# Altium schematic symbol library Schlib1.SchLib: 5 symbols
Pins are listed as number, name and electrical type; pins without a type are passive.

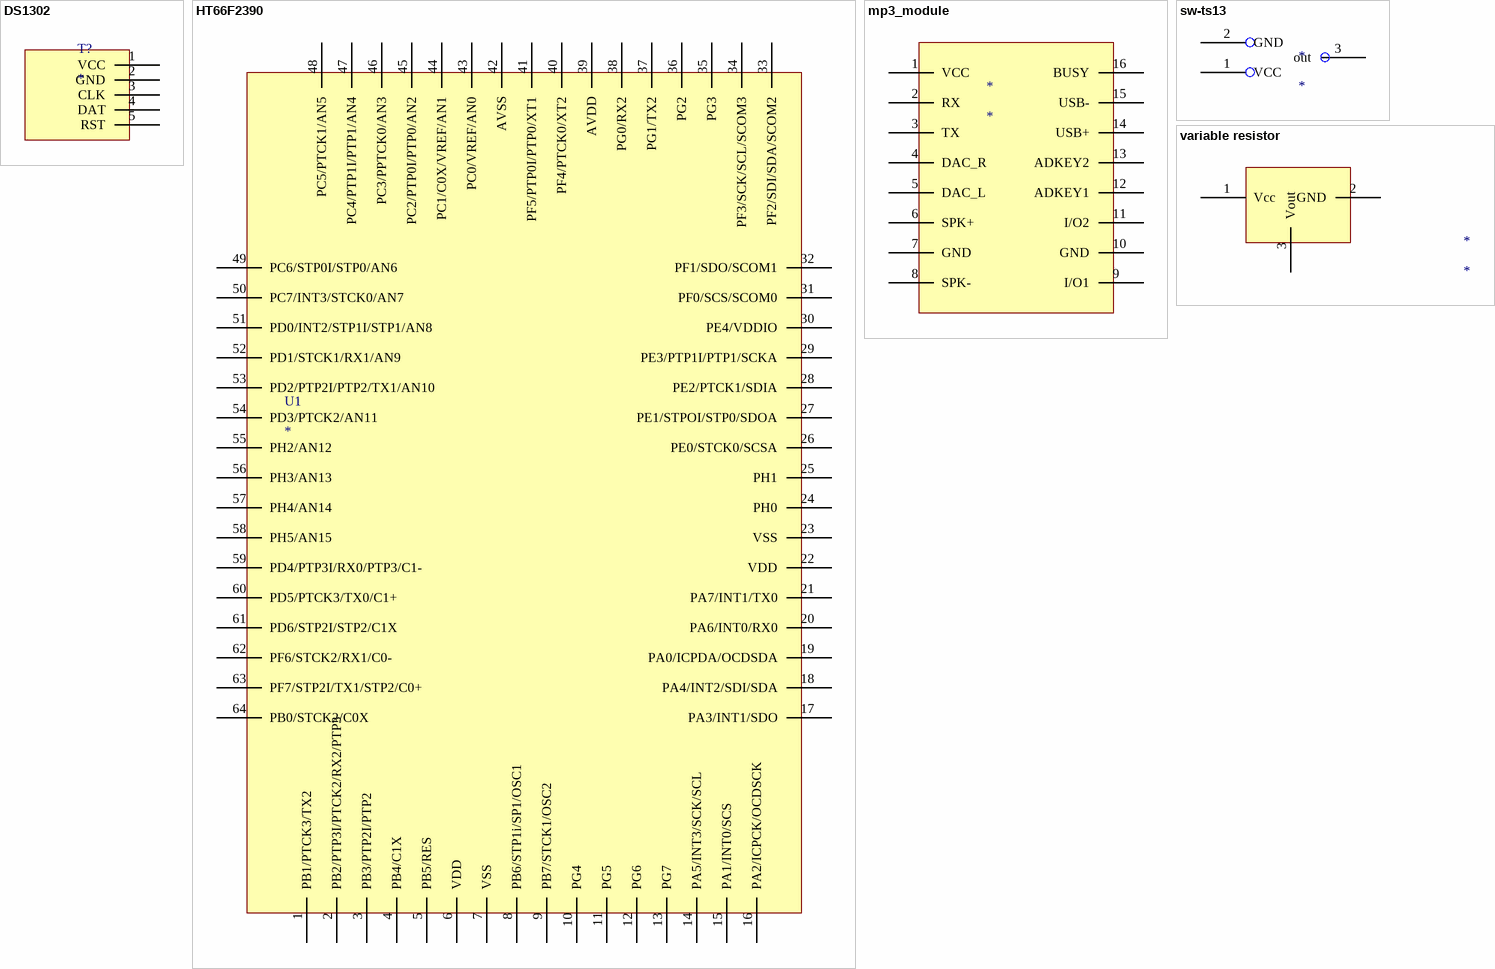
[diagram p0: symbols DS1302 to variable resistor]

## DS1302
designator T?
pins: 1 VCC, 2 GND, 3 CLK, 4 DAT, 5 RST

## HT66F2390
designator U1
footprint LFPQ-64
pins: 1 PB1/PTCK3/TX2, 2 PB2/PTP3I/PTCK2/RX2/PTP3, 3 PB3/PTP2I/PTP2, 4 PB4/C1X, 5 PB5/RES, 6 VDD, 7 VSS, 8 PB6/STP1i/SP1/OSC1, 9 PB7/STCK1/OSC2, 10 PG4, 11 PG5, 12 PG6, 13 PG7, 14 PA5/INT3/SCK/SCL, 15 PA1/INT0/SCS, 16 PA2/ICPCK/OCDSCK, 17 PA3/INT1/SDO, 18 PA4/INT2/SDI/SDA, 19 PA0/ICPDA/OCDSDA, 20 PA6/INT0/RX0, 21 PA7/INT1/TX0, 22 VDD, 23 VSS, 24 PH0, 25 PH1, 26 PE0/STCK0/SCSA, 27 PE1/STPOI/STP0/SDOA, 28 PE2/PTCK1/SDIA, 29 PE3/PTP1I/PTP1/SCKA, 30 PE4/VDDIO, 31 PF0/SCS/SCOM0, 32 PF1/SDO/SCOM1, 33 PF2/SDI/SDA/SCOM2, 34 PF3/SCK/SCL/SCOM3, 35 PG3, 36 PG2, 37 PG1/TX2, 38 PG0/RX2, 39 AVDD, 40 PF4/PTCK0/XT2, 41 PF5/PTP0I/PTP0/XT1, 42 AVSS, 43 PC0/VREF/AN0, 44 PC1/C0X/VREF/AN1, 45 PC2/PTP0I/PTP0/AN2, 46 PC3/PPTCK0/AN3, 47 PC4/PTP1I/PTP1/AN4, 48 PC5/PTCK1/AN5, 49 PC6/STP0I/STP0/AN6, 50 PC7/INT3/STCK0/AN7, 51 PD0/INT2/STP1I/STP1/AN8, 52 PD1/STCK1/RX1/AN9, 53 PD2/PTP2I/PTP2/TX1/AN10, 54 PD3/PTCK2/AN11, 55 PH2/AN12, 56 PH3/AN13, 57 PH4/AN14, 58 PH5/AN15, 59 PD4/PTP3I/RX0/PTP3/C1-, 60 PD5/PTCK3/TX0/C1+, 61 PD6/STP2I/STP2/C1X, 62 PF6/STCK2/RX1/C0-, 63 PF7/STP2I/TX1/STP2/C0+, 64 PB0/STCK2/C0X

## mp3_module
designator *
pins: 1 VCC, 2 RX, 3 TX, 4 DAC_R, 5 DAC_L, 6 SPK+, 7 GND, 8 SPK-, 9 I/O1, 10 GND, 11 I/O2, 12 ADKEY1, 13 ADKEY2, 14 USB+, 15 USB-, 16 BUSY

## sw-ts13
designator *
footprint TS-13
pins: 1 VCC, 2 GND, 3 out

## variable resistor
designator *
footprint VR4
footprint var_test
pins: 1 Vcc, 2 GND, 3 Vout